# Altium integrated library Opto.IntLib: 4 symbols
Pins are listed as number, name and electrical type; pins without a type are passive.

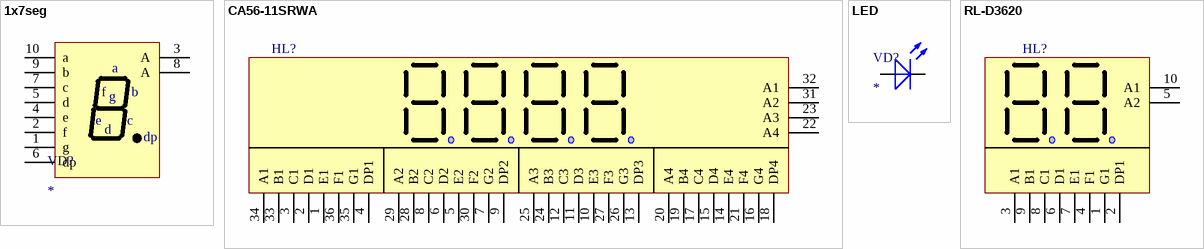
[diagram p0: symbols 1x7seg to RL-D3620]

## 1x7seg
designator VD?
footprint SA39 (9.9mm (0.39INCH) SINGLE DIGIT NUMERIC DISPLAY)
pins: 1 g, 2 f, 3 A, 4 e, 5 d, 6 dp, 7 c, 8 A, 9 b, 10 a

## CA56-11SRWA
designator HL?  (value not drawn)
14.2mm(0.56INCH) Four digit numeric display (Common Anode)
footprint CA56-11SRWA (14.2mm(0.56inch) four digit numeric display)
pins: 1 E1, 2 D1, 3 C1, 4 DP1, 5 E2, 6 D2, 7 G2, 8 C2, 9 DP2, 10 E3, 11 D3, 12 C3, 13 DP3, 14 E4, 15 D4, 16 G4, 17 C4, 18 DP4, 19 B4, 20 A4, 21 F4, 22 A4, 23 A3, 24 B3, 25 A3, 26 G3, 27 F3, 28 B2, 29 A2, 30 F2, 31 A2, 32 A1, 33 B1, 34 A1, 35 G1, 36 F1

## LED
designator VD?
footprint Combi (SMD+TH patern)
footprint LED2.54x3 (LED 2.54 p-p 3x5mm (DxH))
footprint LED2.54x5 (LED 2.54 p-p 5x8.6mm (DxH))
footprint LED1005 (LED 1.0x0.5mm)
footprint LED1608 (LED 1.6x0.8mm)
footprint LED2012 (LED 2.0x1.2mm)
footprint OP168 (2.54 p-p (1.52x4.06x3.24)mm)
footprint TO-46 (2.54 p-p 5.33x3.7mm (DxH))
pins: A, K

## RL-D3620
designator HL?  (value not drawn)
Two digit numeric display
footprint RL-D3620 (Two digit numeric display)
pins: 1 G1, 2 DP1, 3 A1, 4 F1, 5 A2, 6 D1, 7 E1, 8 C1, 9 B1, 10 A1